# EAGLE library part PTN78060A (library SensorCape)
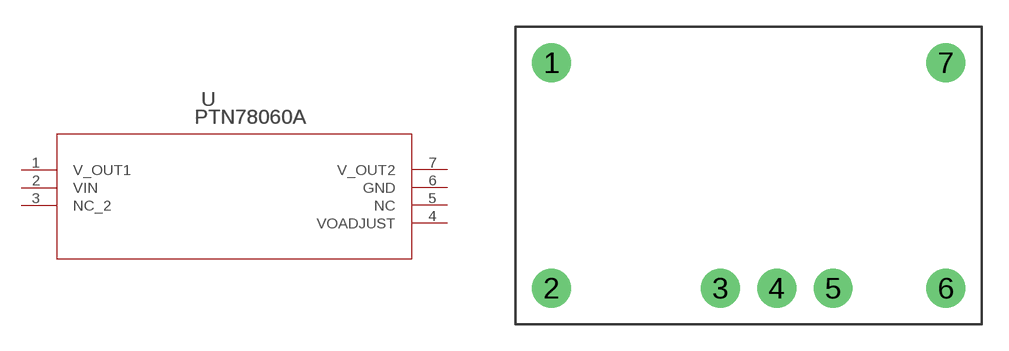
[diagram p29: symbol with the pads of PTN_EUW; footprint PTN_EUW]

Designator prefix -

## PTN78060A  [PTN_EUW]
1  V_OUT1  pas
2  VIN  pas
3  NC_2  pas
4  VOADJUST  pas
5  NC  pas
6  GND  pas
7  V_OUT2  pas

## Footprint PTN_EUW (pad centres in mm)
drill 1.2 pad 2.184: 1 2.03,14.73; 2 2.03,2.03; 3 11.55,2.03; 4 14.73,2.03; 5 17.91,2.03; 6 24.26,2.03; 7 24.26,14.73